# EAGLE library part RT424F* (library df4iah_relay)
Power PCB Relay polarized bistable version SCHRACK 2 pole 8 A Source: http://www.schrack.com/.. 5843.pdf
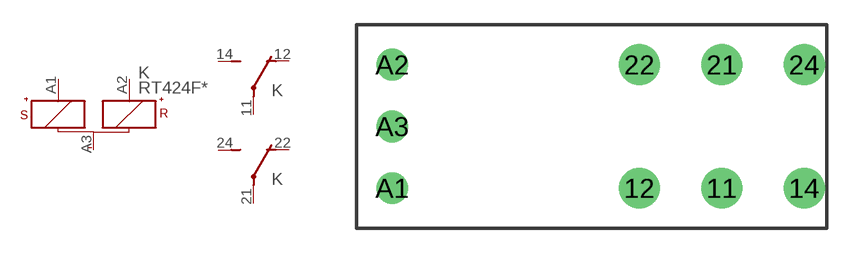
[diagram p133: symbol with the pads of RT424; footprint RT424]

Designator prefix K; gates 1=+KS+KR- 2=U 3=U

## RT424F054 (OC_FARNELL: unknown; OC_NEWARK: unknown), RT424F064 (OC_FARNELL: unknown; OC_NEWARK: unknown), RT424F124 (OC_FARNELL: unknown; OC_NEWARK: unknown), RT424F244 (OC_FARNELL: unknown; OC_NEWARK: unknown)  [RT424]
11  2:P  pas
12  2:O  pas
14  2:S  pas
21  3:P  pas
22  3:O  pas
24  3:S  pas
A1  1:S+  pas
A2  1:R+  pas
A3  1:-  pas

## Footprint RT424 (pad centres in mm)
Power PCB Relay polarized bistable version SCHRACK 2 pole 8 A Source: http://www.schrack.com/.. 5843.pdf
drill 1.3 pad 2.5: 11 7.56,-3.78; 12 2.52,-3.78; 14 12.6,-3.78; 21 7.56,3.78; 22 2.52,3.78; 24 12.6,3.78
drill 1.3: A1 -12.6,-3.78; A2 -12.6,3.78; A3 -12.6,0